# EAGLE library part FX0S8700CQ (library imix)
FXOS8700CQ accelerometer from NXP. 6-axis with linear accelerometer and magnetometer. Accelerometer is 14-bit resolution, magnetometer is 16-bit.
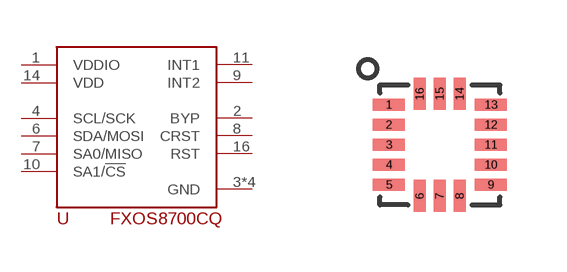
[diagram p10: symbol with the pads of QFN16_3,5; footprint QFN16_3,5]

Designator prefix U

## FX0S8700CQ  [QFN16_3,5]
1  VDDIO
2  BYP
3  GND
4  SCL/SCK
5  GND
6  SDA/MOSI
7  SA0/MISO
8  CRST
9  INT2
10  SA1/!CS
11  INT1
12  GND
13  GND
14  VDD
16  RST

## Footprint QFN16_3,5 (pad centres in mm)
QFN16 package for the FXOS8700CQ 6-axis accelerometer/magnetometer
smd 0.8 x 0.3: 1 -1.275,1; 2 -1.275,0.5; 3 -1.275,0; 4 -1.275,-0.5; 5 -1.275,-1; 9 1.275,-1; 10 1.275,-0.5; 11 1.275,0; 12 1.275,0.5; 13 1.275,1
smd 0.3 x 0.8: 6 -0.5,-1.275; 7 0,-1.275; 8 0.5,-1.275; 14 0.5,1.275; 15 0,1.275; 16 -0.5,1.275